# Altium footprint library Small Outline (~1.27mm Pitch) - 6to20 Leads.PcbLib: 80 footprints (part 3 of 5)
Each footprint in its own frame and in the unit in brackets; x right, y up, seen from the top. Pads: shape width x height; smd on the part's side, far side on the other; paste and mask are expansions set on the pad; w line width, h text height; cw(c..) or ccw(c..) is an arc to the next point about the centre after c.
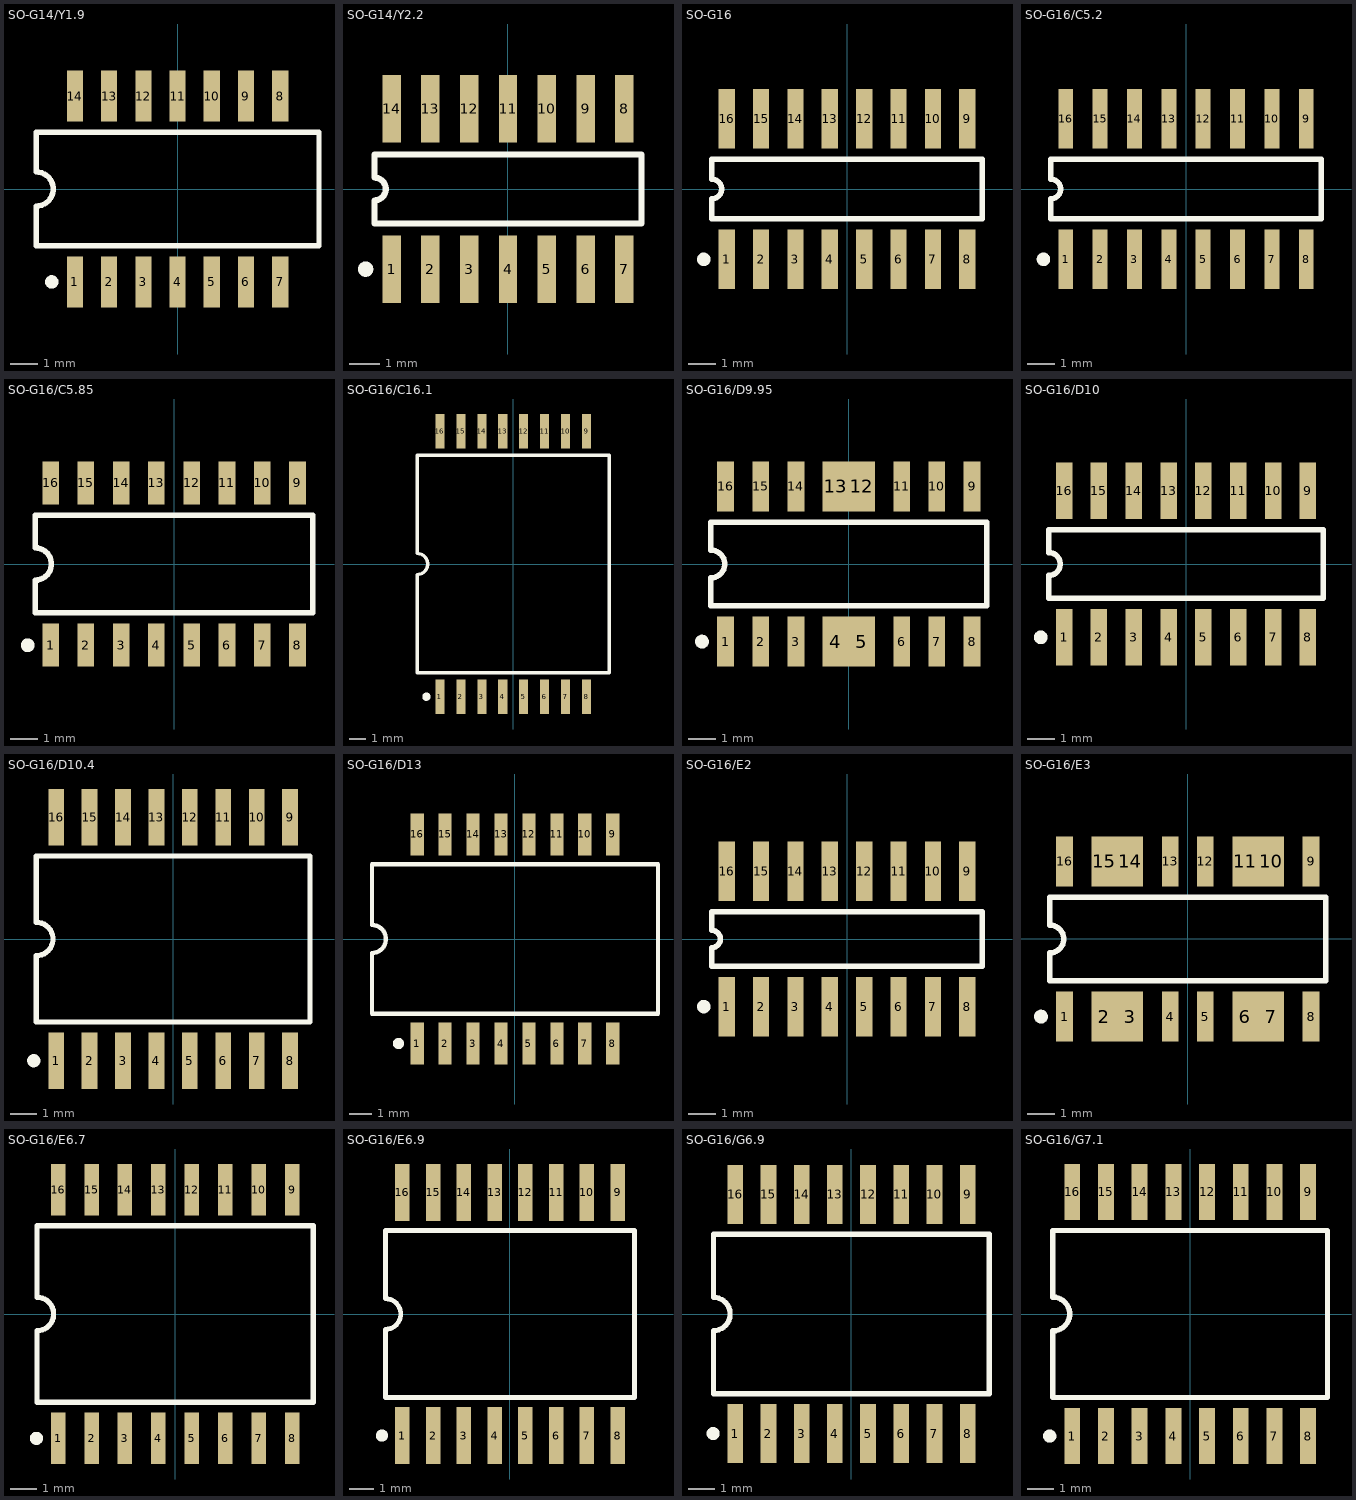
[diagram p2: the footprints below, top view; thin cyan lines are the x and y axes]

## SO-G14/Y1.9 [mm] "Small Outline; 14 Leads; Body Width 5.3 mm; Pitch 1.27 mm"
height 2.05
pads (14):
  rect 0.6x1.9 smd: 1(-3.81,-3.45) 2(-2.54,-3.45) 3(-1.27,-3.45) 4(0,-3.45) 5(1.27,-3.45) 6(2.54,-3.45) 7(3.81,-3.45) 8(3.81,3.45) 9(2.54,3.45) 10(1.27,3.45) 11(0,3.45) 12(-1.27,3.45) 13(-2.54,3.45) 14(-3.81,3.45)
Top Overlay:
  circle w0.25: c-4.67,-3.45 r0.125
  lines w0.2: -5.25,-2.1 -5.25,-0.635 ccw(c-5.25,0) -5.25,0.635 -5.25,2.1 5.25,2.1 5.25,-2.1 -5.25,-2.1

## SO-G14/Y2.2 [mm] "Small Outline; 14 Leads; Body Width 3.9 mm; Pitch 1.27 mm"
height 1.75
pads (14):
  rect 0.6x2.2 smd: 1(-3.81,-2.625) 2(-2.54,-2.625) 3(-1.27,-2.625) 4(0,-2.625) 5(1.27,-2.625) 6(2.54,-2.625) 7(3.81,-2.625) 8(3.81,2.625) 9(2.54,2.625) 10(1.27,2.625) 11(0,2.625) 12(-1.27,2.625) 13(-2.54,2.625) 14(-3.81,2.625)
Top Overlay:
  circle w0.25: c-4.66,-2.625 r0.125
  lines w0.2: -4.375,-1.125 4.375,-1.125 4.375,1.125 -4.375,1.125 -4.375,0.375 cw(c-4.375,0) -4.375,-0.375 -4.375,-1.125

## SO-G16 [mm] "Small Outline; 16 Leads; Body Width 3.9 mm; Pitch 1.27 mm"
height 1.75
pads (16):
  rect 0.6x2.2 smd: 1(-4.445,-2.6) 2(-3.175,-2.6) 3(-1.905,-2.6) 4(-0.635,-2.6) 5(0.635,-2.6) 6(1.905,-2.6) 7(3.175,-2.6) 8(4.445,-2.6) 9(4.445,2.6) 10(3.175,2.6) 11(1.905,2.6) 12(0.635,2.6) 13(-0.635,2.6) 14(-1.905,2.6) 15(-3.175,2.6) 16(-4.445,2.6)
Top Overlay:
  circle w0.25: c-5.295,-2.6 r0.125
  lines w0.2: -5,-1.1 5,-1.1 5,1.1 -5,1.1 -5,0.367 cw(c-5,0) -5,-0.367 -5,-1.1

## SO-G16/C5.2 [mm] "Small Outline; 16 Leads; Body Width 3.9 mm; Pitch 1.27 mm"
height 1.5
pads (16):
  rect 0.55x2.2 smd: 1(-4.445,-2.6) 2(-3.175,-2.6) 3(-1.905,-2.6) 4(-0.635,-2.6) 5(0.635,-2.6) 6(1.905,-2.6) 7(3.175,-2.6) 8(4.445,-2.6) 9(4.445,2.6) 10(3.175,2.6) 11(1.905,2.6) 12(0.635,2.6) 13(-0.635,2.6) 14(-1.905,2.6) 15(-3.175,2.6) 16(-4.445,2.6)
Top Overlay:
  circle w0.25: c-5.27,-2.6 r0.125
  lines w0.2: -5,-1.1 5,-1.1 5,1.1 -5,1.1 -5,0.367 cw(c-5,0) -5,-0.367 -5,-1.1

## SO-G16/C5.85 [mm] "Small Outline; 16 Leads; Body Width 3.9 mm; Pitch 1.27 mm"
height 1.73
pads (16):
  rect 0.6x1.55 smd: 1(-4.445,-2.925) 2(-3.175,-2.925) 3(-1.905,-2.925) 4(-0.635,-2.925) 5(0.635,-2.925) 6(1.905,-2.925) 7(3.175,-2.925) 8(4.445,-2.925) 9(4.445,2.925) 10(3.175,2.925) 11(1.905,2.925) 12(0.635,2.925) 13(-0.635,2.925) 14(-1.905,2.925) 15(-3.175,2.925) 16(-4.445,2.925)
Top Overlay:
  circle w0.25: c-5.27,-2.925 r0.125
  lines w0.2: -5,-1.75 5,-1.75 5,1.75 -5,1.75 -5,0.583 cw(c-5,0) -5,-0.583 -5,-1.75

## SO-G16/C16.1 [mm] "Small Outline; 16 Leads; Body Width 11.4 mm; Pitch 1.27 mm"
height 3.38
pads (16):
  rect 0.55x2.1 smd: 1(-4.445,-8.05) 2(-3.175,-8.05) 3(-1.905,-8.05) 4(-0.635,-8.05) 5(0.635,-8.05) 6(1.905,-8.05) 7(3.175,-8.05) 8(4.445,-8.05) 9(4.445,8.05) 10(3.175,8.05) 11(1.905,8.05) 12(0.635,8.05) 13(-0.635,8.05) 14(-1.905,8.05) 15(-3.175,8.05) 16(-4.445,8.05)
Top Overlay:
  circle w0.25: c-5.27,-8.05 r0.125
  lines w0.2: -5.825,-6.6 5.825,-6.6 5.825,6.6 -5.825,6.6 -5.825,0.635 cw(c-5.825,0) -5.825,-0.635 -5.825,-6.6

## SO-G16/D9.95 [mm] "Small Outline; 16 Leads; Body Width 3.9 mm; Pitch 1.27 mm"
height 1.5
pads (16):
  rect 0.6x1.8 smd: 1(-4.445,-2.8) 2(-3.175,-2.8) 3(-1.905,-2.8) 6(1.905,-2.8) 7(3.175,-2.8) 8(4.445,-2.8) 9(4.445,2.8) 10(3.175,2.8) 11(1.905,2.8) 14(-1.905,2.8) 15(-3.175,2.8) 16(-4.445,2.8)
  rect 0.94x1.8 smd: 4(-0.47,-2.8) 5(0.47,-2.8) 12(0.47,2.8) 13(-0.47,2.8)
Top Overlay:
  circle w0.25: c-5.295,-2.8 r0.125
  lines w0.2: -4.975,-1.5 4.975,-1.5 4.975,1.5 -4.975,1.5 -4.975,0.5 cw(c-4.975,0) -4.975,-0.5 -4.975,-1.5

## SO-G16/D10 [mm] "Small Outline; 16 Leads; Body Width 3.9 mm; Pitch 1.27 mm"
height 1.75
pads (16):
  rect 0.6x2.05 smd: 1(-4.445,-2.675) 2(-3.175,-2.675) 3(-1.905,-2.675) 4(-0.635,-2.675) 5(0.635,-2.675) 6(1.905,-2.675) 7(3.175,-2.675) 8(4.445,-2.675) 9(4.445,2.675) 10(3.175,2.675) 11(1.905,2.675) 12(0.635,2.675) 13(-0.635,2.675) 14(-1.905,2.675) 15(-3.175,2.675) 16(-4.445,2.675)
Top Overlay:
  circle w0.25: c-5.295,-2.675 r0.125
  lines w0.2: -5,-1.25 5,-1.25 5,1.25 -5,1.25 -5,0.417 cw(c-5,0) -5,-0.417 -5,-1.25

## SO-G16/D10.4 [mm] "Small Outline, Plastic; 16 Leads; Body Width 7.5 mm"
height 2.65
pads (16):
  rect 0.6x2.15 smd: 1(-4.445,-4.625) 2(-3.175,-4.625) 3(-1.905,-4.625) 4(-0.635,-4.625) 5(0.635,-4.625) 6(1.905,-4.625) 7(3.175,-4.625) 8(4.445,-4.625) 9(4.445,4.625) 10(3.175,4.625) 11(1.905,4.625) 12(0.635,4.625) 13(-0.635,4.625) 14(-1.905,4.625) 15(-3.175,4.625) 16(-4.445,4.625)
Top Overlay:
  circle w0.25: c-5.295,-4.625 r0.125
  lines w0.2: -5.2,-3.15 -5.2,-0.635 ccw(c-5.2,0) -5.2,0.635 -5.2,3.15 5.2,3.15 5.2,-3.15 -5.2,-3.15

## SO-G16/D13 [mm] "Small Outline; 16 Leads; Body Width 7.5 mm; Pitch 1.27 mm"
height 2.68
pads (16):
  rect 0.6x1.9 smd: 1(-4.445,-4.75) 2(-3.175,-4.75) 3(-1.905,-4.75) 4(-0.635,-4.75) 5(0.635,-4.75) 6(1.905,-4.75) 7(3.175,-4.75) 8(4.445,-4.75) 9(4.445,4.75) 10(3.175,4.75) 11(1.905,4.75) 12(0.635,4.75) 13(-0.635,4.75) 14(-1.905,4.75) 15(-3.175,4.75) 16(-4.445,4.75)
Top Overlay:
  circle w0.25: c-5.295,-4.75 r0.125
  lines w0.2: -6.5,-3.4 -6.5,-0.635 ccw(c-6.5,0) -6.5,0.635 -6.5,3.4 6.5,3.4 6.5,-3.4 -6.5,-3.4

## SO-G16/E2 [mm] "Small Outline; 16 Leads; Body Width 3.9 mm; Pitch 1.27 mm"
height 1.75
pads (16):
  rect 0.6x2.2 smd: 1(-4.445,-2.5) 2(-3.175,-2.5) 3(-1.905,-2.5) 4(-0.635,-2.5) 5(0.635,-2.5) 6(1.905,-2.5) 7(3.175,-2.5) 8(4.445,-2.5) 9(4.445,2.5) 10(3.175,2.5) 11(1.905,2.5) 12(0.635,2.5) 13(-0.635,2.5) 14(-1.905,2.5) 15(-3.175,2.5) 16(-4.445,2.5)
Top Overlay:
  circle w0.25: c-5.295,-2.5 r0.125
  lines w0.2: -5,-1 -5,-0.318 ccw(c-5,0) -5,0.318 -5,1 5,1 5,-1 -5,-1

## SO-G16/E3 [mm] "Small Outline; 16 Leads; Body Width 3.9 mm; Pitch 1.27 mm"
height 1.5
pads (16):
  rect 0.6x1.8 smd: 1(-4.445,-2.8) 4(-0.635,-2.8) 5(0.635,-2.8) 8(4.445,-2.8) 9(4.445,2.8) 12(0.635,2.8) 13(-0.635,2.8) 16(-4.445,2.8)
  rect 0.935x1.8 smd: 2(-3.01,-2.8) 3(-2.075,-2.8) 6(2.075,-2.8) 7(3.01,-2.8) 10(3.01,2.8) 11(2.075,2.8) 14(-2.075,2.8) 15(-3.01,2.8)
Top Overlay:
  circle w0.25: c-5.295,-2.8 r0.125
  lines w0.2: -4.975,-1.5 -4.975,-0.5 ccw(c-4.975,0) -4.975,0.5 -4.975,1.5 4.975,1.5 4.975,-1.5 -4.975,-1.5

## SO-G16/E6.7 [mm] "Small Outline; 16 Leads; Body Width 7.5 mm; Pitch 1.27 mm"
height 2.72
pads (16):
  rect 0.55x1.95 smd: 1(-4.445,-4.725) 2(-3.175,-4.725) 3(-1.905,-4.725) 4(-0.635,-4.725) 5(0.635,-4.725) 6(1.905,-4.725) 7(3.175,-4.725) 8(4.445,-4.725) 9(4.445,4.725) 10(3.175,4.725) 11(1.905,4.725) 12(0.635,4.725) 13(-0.635,4.725) 14(-1.905,4.725) 15(-3.175,4.725) 16(-4.445,4.725)
Top Overlay:
  circle w0.25: c-5.27,-4.725 r0.125
  lines w0.2: -5.25,-3.35 5.25,-3.35 5.25,3.35 -5.25,3.35 -5.25,0.635 cw(c-5.25,0) -5.25,-0.635 -5.25,-3.35

## SO-G16/E6.9 [mm] "Small Outline; 16 Leads; Body Width 6.5 mm; Pitch 1.27 mm"
height 2.62
pads (16):
  rect 0.6x2.35 smd: 1(-4.445,-5.025) 2(-3.175,-5.025) 3(-1.905,-5.025) 4(-0.635,-5.025) 5(0.635,-5.025) 6(1.905,-5.025) 7(3.175,-5.025) 8(4.445,-5.025) 9(4.445,5.025) 10(3.175,5.025) 11(1.905,5.025) 12(0.635,5.025) 13(-0.635,5.025) 14(-1.905,5.025) 15(-3.175,5.025) 16(-4.445,5.025)
Top Overlay:
  circle w0.25: c-5.295,-5.025 r0.125
  lines w0.2: -5.15,-3.45 -5.15,-0.635 ccw(c-5.15,0) -5.15,0.635 -5.15,3.45 5.15,3.45 5.15,-3.45 -5.15,-3.45

## SO-G16/G6.9 [mm] "Small Outline; 16 Leads; Body Width 7.5 mm; Pitch 1.27 mm"
height 2.65
pads (16):
  rect 0.6x2.25 smd: 1(-4.445,-4.575) 2(-3.175,-4.575) 3(-1.905,-4.575) 4(-0.635,-4.575) 5(0.635,-4.575) 6(1.905,-4.575) 7(3.175,-4.575) 8(4.445,-4.575) 9(4.445,4.575) 10(3.175,4.575) 11(1.905,4.575) 12(0.635,4.575) 13(-0.635,4.575) 14(-1.905,4.575) 15(-3.175,4.575) 16(-4.445,4.575)
Top Overlay:
  circle w0.25: c-5.295,-4.575 r0.125
  lines w0.2: -5.275,-3.05 5.275,-3.05 5.275,3.05 -5.275,3.05 -5.275,0.635 cw(c-5.275,0) -5.275,-0.635 -5.275,-3.05

## SO-G16/G7.1 [mm] "Small Outline; 16 Leads; Body Width 7.5 mm; Pitch 1.27 mm"
height 2.64
pads (16):
  rect 0.6x2.1 smd: 1(-4.445,-4.6) 2(-3.175,-4.6) 3(-1.905,-4.6) 4(-0.635,-4.6) 5(0.635,-4.6) 6(1.905,-4.6) 7(3.175,-4.6) 8(4.445,-4.6) 9(4.445,4.6) 10(3.175,4.6) 11(1.905,4.6) 12(0.635,4.6) 13(-0.635,4.6) 14(-1.905,4.6) 15(-3.175,4.6) 16(-4.445,4.6)
Top Overlay:
  circle w0.25: c-5.295,-4.6 r0.125
  lines w0.2: -5.175,-3.15 -5.175,-0.635 ccw(c-5.175,0) -5.175,0.635 -5.175,3.15 5.175,3.15 5.175,-3.15 -5.175,-3.15